# EAGLE library part L3GD20H (library L3GD20H)
MEMS motion sensor: three-axis digital output gyroscope
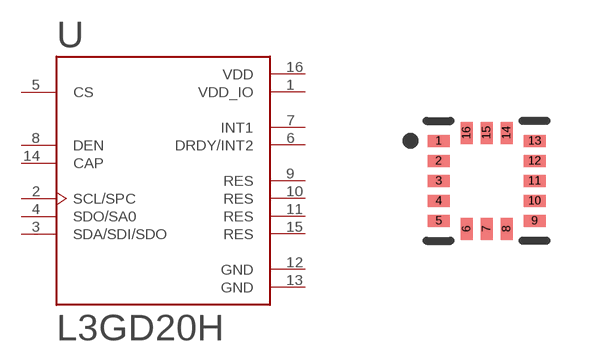
[diagram p0: symbol with the pads of LGA16R50P7X5_300X300X100; footprint LGA16R50P7X5_300X300X100]

Designator prefix U

## L3GD20H (AVAILABILITY: Unavailable; DESCRIPTION: MEMS motion sensor: 3-axis digital output gyroscope; MF: STMicroelectronics; MP: L3GD20H; PACKAGE: LGA-16 STMicroelectronics; PRICE: 5.00 USD)  [LGA16R50P7X5_300X300X100]
1  VDD_IO  pwr
2  SCL/SPC  in
3  SDA/SDI/SDO
4  SDO/SA0
5  CS  in
6  DRDY/INT2  out
7  INT1  out
8  DEN  in
9  RES  pwr
10  RES  pwr
11  RES  pwr
12  GND  pwr
13  GND  pwr
14  CAP  pas
15  RES  pwr
16  VDD  pwr

## Footprint LGA16R50P7X5_300X300X100 (pad centres in mm)
smd 0.55 x 0.3: 1 -1.2,1; 2 -1.2,0.5; 3 -1.2,0; 4 -1.2,-0.5; 5 -1.2,-1; 9 1.2,-1; 10 1.2,-0.5; 11 1.2,0; 12 1.2,0.5; 13 1.2,1
smd 0.3 x 0.55: 6 -0.5,-1.2; 7 0,-1.2; 8 0.5,-1.2; 14 0.5,1.2; 15 0,1.2; 16 -0.5,1.2